# Altium schematic symbol library lm1117_10.SCHLIB: 12 symbols
Pins are listed as number, name and electrical type; pins without a type are passive.

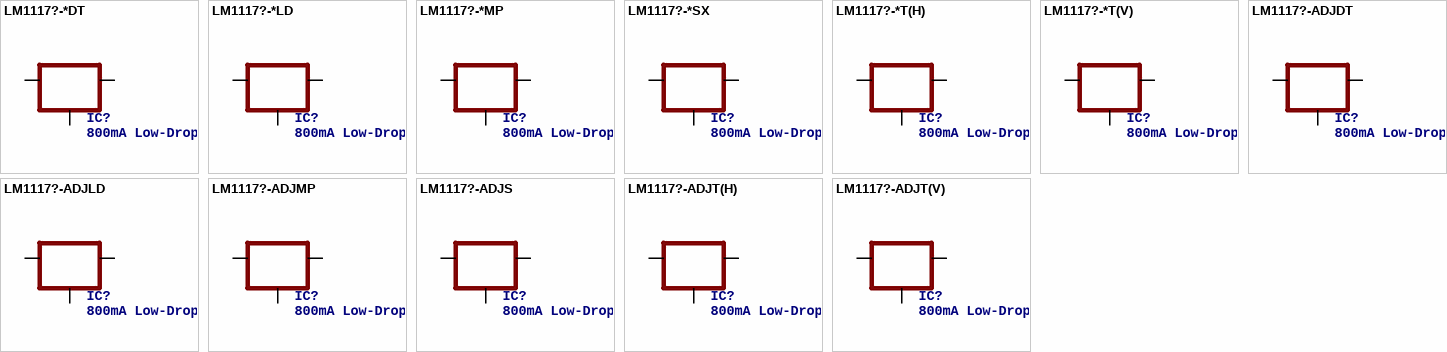
[diagram p0: symbols LM1117?-*DT to LM1117?-ADJT(V)]

## LM1117?-*DT
designator IC?, comment 800mA Low-Dropout Linear Regulator  Source: http://www.ti.com/lit/ds/symlink/lm1117-n.pdf
MPN: LM1117DT-1.8; MPN: LM1117DT-2.5; MPN: LM1117DT-3.3; MPN: LM1117DT-5.0; MF: Texas Instruments; OC_FARNELL: 1798351; OC_NEWARK: 73R9726; OC_FARNELL: 2323582; OC_NEWARK: 41K3428; OC_FARNELL: 1469048; OC_NEWARK: 41K3430; OC_FARNELL: 9486283; OC_NEWARK: 41K3431
footprint TO252
pins: 1 GND, 2 IN, 3 OUT

## LM1117?-*LD
designator IC?, comment 800mA Low-Dropout Linear Regulator  Source: http://www.ti.com/lit/ds/symlink/lm1117-n.pdf
MPN: LM1117LD-1.8; MPN: LM1117LD-2.5; MPN: LM1117LD-3.3; MF: Texas Instruments; OC_FARNELL: 1798353; OC_NEWARK: unknown; OC_FARNELL: unknown; OC_FARNELL: 8221901; OC_NEWARK: 38K3616
footprint WSON8-4X4
pins: 1 GND, 2 3 4 IN, 5 6 7 EXP OUT

## LM1117?-*MP
designator IC?, comment 800mA Low-Dropout Linear Regulator  Source: http://www.ti.com/lit/ds/symlink/lm1117-n.pdf
MPN: LM1117MP-1.8; MPN: LM1117MP-2.5; MPN: LM1117MP-3.3; MPN: LM1117MP-5.0; MF: Texas Instruments; OC_FARNELL: 1469053; OC_NEWARK: 41K3467; OC_FARNELL: 1564629; OC_NEWARK: 41K3468; OC_FARNELL: 9778195; OC_NEWARK: 28X3416; OC_FARNELL: 9778209; OC_NEWARK: 28X3417
footprint SOT223
pins: 1 GND, 2 4 OUT, 3 IN

## LM1117?-*SX
designator IC?, comment 800mA Low-Dropout Linear Regulator  Source: http://www.ti.com/lit/ds/symlink/lm1117-n.pdf
MPN: LM1117SX-3.3; MPN: LM1117SX-5.0; MF: Texas Instruments; OC_FARNELL: 2323594; OC_NEWARK: 41K3484; OC_FARNELL: 2383003; OC_NEWARK: unknown
footprint TO263-3
pins: 1 GND, 2 TAB OUT, 3 IN

## LM1117?-*T(H)
designator IC?, comment 800mA Low-Dropout Linear Regulator  Source: http://www.ti.com/lit/ds/symlink/lm1117-n.pdf
MPN: LM1117T-2.5; MPN: LM1117T-3.3; MPN: LM1117T-5.0; MF: Texas Instruments; OC_FARNELL: 1798354; OC_NEWARK: 75R2090; OC_FARNELL: 1469056; OC_NEWARK: 13B5347; OC_FARNELL: 1215183; OC_NEWARK: 41K3491
footprint TO220H
pins: 1 GND, 2 OUT, 3 IN

## LM1117?-*T(V)
designator IC?, comment 800mA Low-Dropout Linear Regulator  Source: http://www.ti.com/lit/ds/symlink/lm1117-n.pdf
MPN: LM1117T-2.5; MPN: LM1117T-3.3; MPN: LM1117T-5.0; MF: Texas Instruments; OC_FARNELL: 1798354; OC_NEWARK: 75R2090; OC_FARNELL: 1469056; OC_NEWARK: 13B5347; OC_FARNELL: 1215183; OC_NEWARK: 41K3491
footprint TO220V
pins: 1 GND, 2 OUT, 3 IN

## LM1117?-ADJDT
designator IC?, comment 800mA Low-Dropout Linear Regulator  Source: http://www.ti.com/lit/ds/symlink/lm1117-n.pdf
MPN: LM1777DT-ADJ; MF: Texas Instruments; OC_FARNELL: 9486267; OC_NEWARK: 41K3426
footprint TO252
pins: 1 ADJ, 2 OUT, 3 IN

## LM1117?-ADJLD
designator IC?, comment 800mA Low-Dropout Linear Regulator  Source: http://www.ti.com/lit/ds/symlink/lm1117-n.pdf
MPN: LM1777LD-ADJ; MF: Texas Instruments; OC_FARNELL: unknown; OC_NEWARK: unknown
footprint WSON8-4X4
pins: 1 ADJ, 2 3 4 IN, 5 6 7 EXP OUT

## LM1117?-ADJMP
designator IC?, comment 800mA Low-Dropout Linear Regulator  Source: http://www.ti.com/lit/ds/symlink/lm1117-n.pdf
MPN: LM1777MP-ADJ; MF: Texas Instruments; OC_FARNELL: 9778187; OC_NEWARK: 13B5337
footprint SOT223
pins: 1 ADJ, 2 4 OUT, 3 IN

## LM1117?-ADJS
designator IC?, comment 800mA Low-Dropout Linear Regulator  Source: http://www.ti.com/lit/ds/symlink/lm1117-n.pdf
MPN: LM1777S-ADJ; MF: Texas Instruments; OC_FARNELL: 8221910; OC_NEWARK: 41K3478
footprint TO263-3
pins: 1 ADJ, 2 TAB OUT, 3 IN

## LM1117?-ADJT(H)
designator IC?, comment 800mA Low-Dropout Linear Regulator  Source: http://www.ti.com/lit/ds/symlink/lm1117-n.pdf
MPN: LM1777T-ADJ; MF: Texas Instruments; OC_FARNELL: 9485805; OC_NEWARK: 13B5345
footprint TO220H
pins: 1 ADJ, 2 OUT, 3 IN

## LM1117?-ADJT(V)
designator IC?, comment 800mA Low-Dropout Linear Regulator  Source: http://www.ti.com/lit/ds/symlink/lm1117-n.pdf
MPN: LM1777T-ADJ; MF: Texas Instruments; OC_FARNELL: 9485805; OC_NEWARK: 13B5345
footprint TO220V
pins: 1 ADJ, 2 OUT, 3 IN